# EAGLE library part 87368-26 (library untitled)
RECEPTACAL
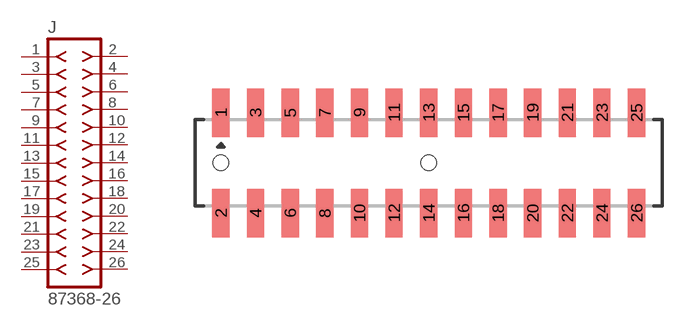
[diagram p192: symbol with the pads of 87368-26; footprint 87368-26]

Designator prefix J

## 87368-26  [87368-26]
1  1  pas
2  2  pas
3  3  pas
4  4  pas
5  5  pas
6  6  pas
7  7  pas
8  8  pas
9  9  pas
10  10  pas
11  11  pas
12  12  pas
13  13  pas
14  14  pas
15  15  pas
16  16  pas
17  17  pas
18  18  pas
19  19  pas
20  20  pas
21  21  pas
22  22  pas
23  23  pas
24  24  pas
25  25  pas
26  26  pas

## Footprint 87368-26 (pad centres in mm)
RECEPTACAL SMD Dual Row, Side Entry
smd 1 x 2.8: 1 -12,2.9; 2 -12,-2.9; 3 -10,2.9; 4 -10,-2.9; 5 -8,2.9; 6 -8,-2.9; 7 -6,2.9; 8 -6,-2.9; 9 -4,2.9; 10 -4,-2.9; 11 -2,2.9; 12 -2,-2.9; 13 0,2.9; 14 0,-2.9; 15 2,2.9; 16 2,-2.9; 17 4,2.9; 18 4,-2.9; 19 6,2.9; 20 6,-2.9; 21 8,2.9; 22 8,-2.9; 23 10,2.9; 24 10,-2.9; 25 12,2.9; 26 12,-2.9
hole 0.914 at -12,0
hole 0.914 at 0,0